# Altium schematic symbol library HW_ADHERENT_LANECTRL_R1.SchLib: 1635 symbols (part 31 of 31)
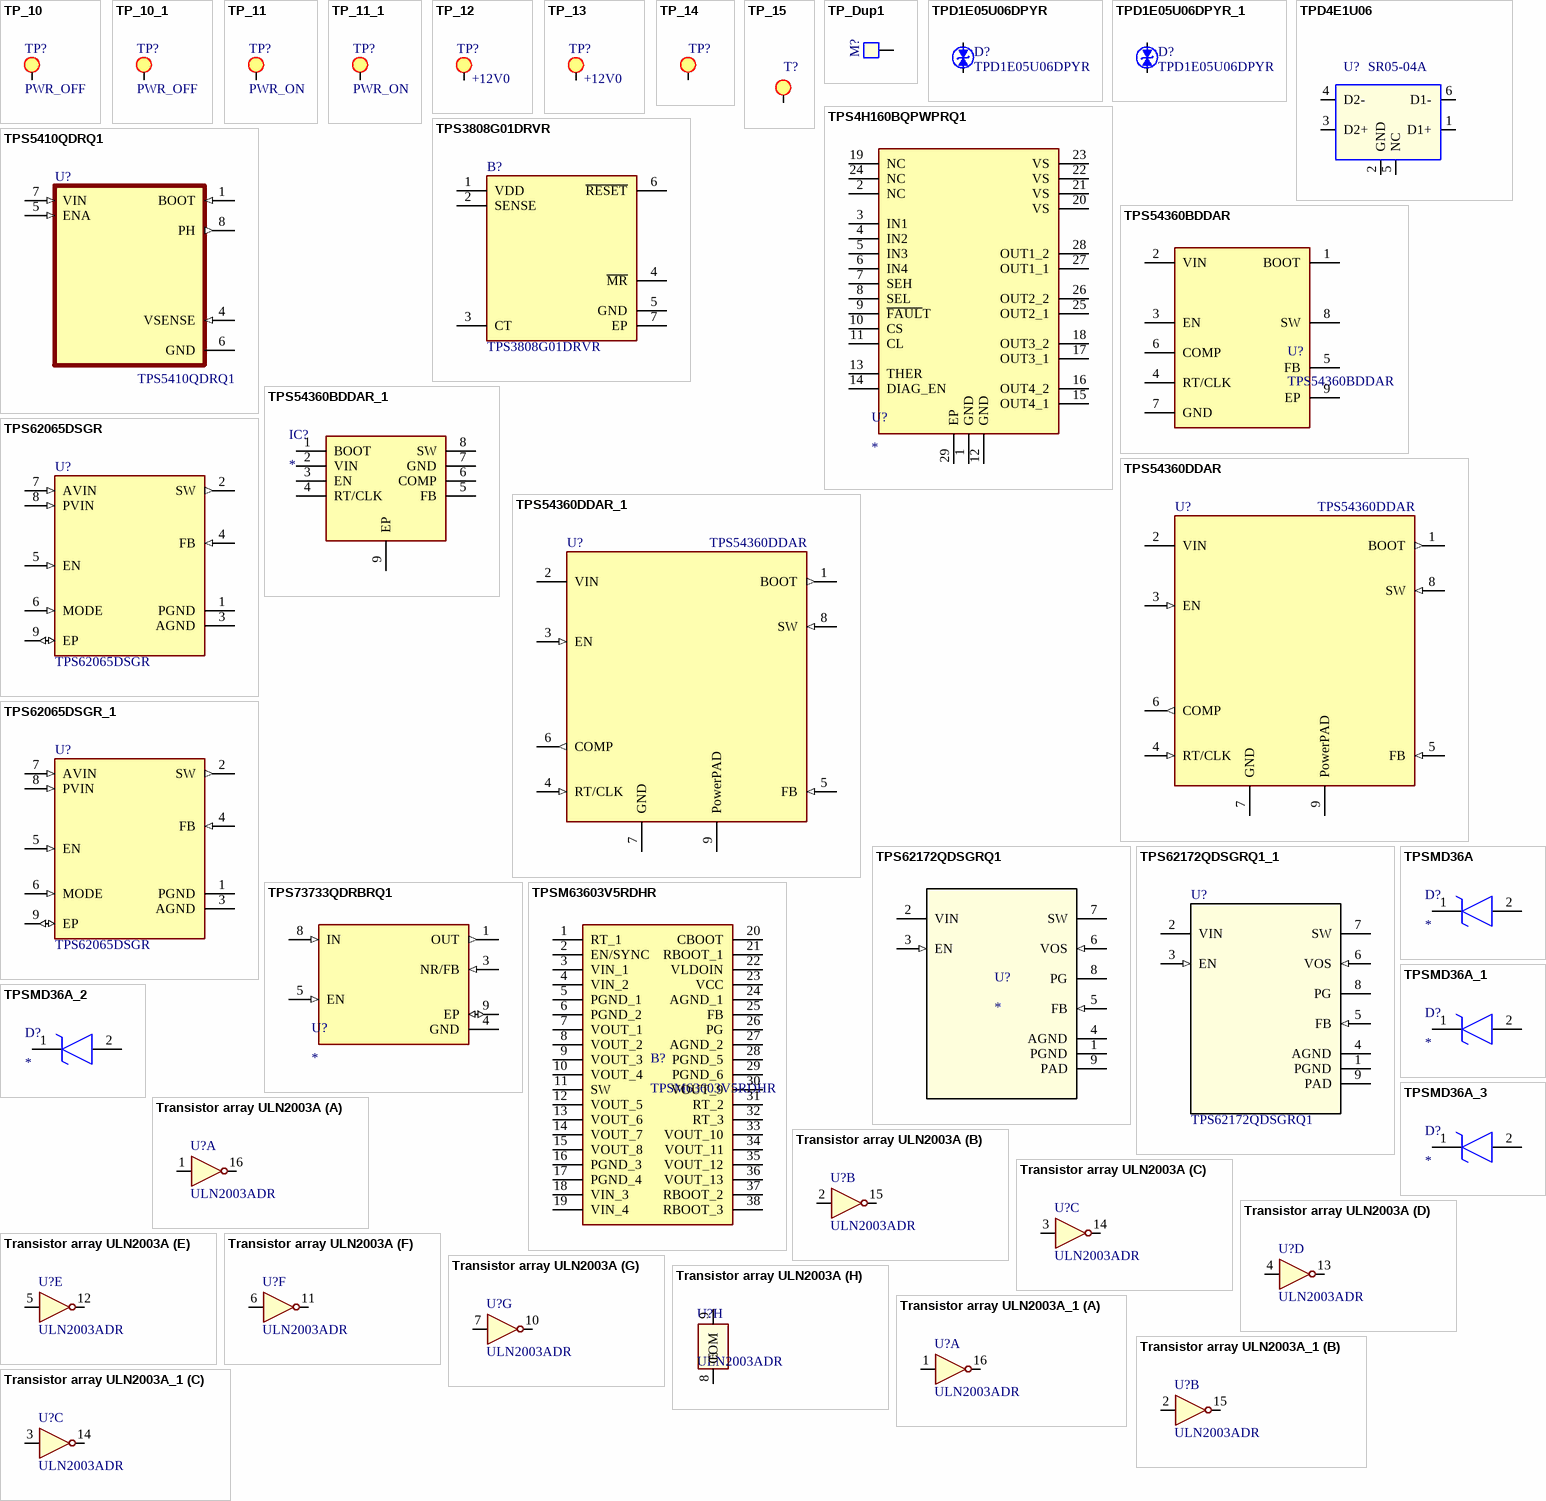
[diagram p81: symbols TP_10 to Transistor array ULN2003A_1]

## TPS62172QDSGRQ1_1
designator U?, comment TPS62172QDSGRQ1
No Description Available; Mfr_Name: Texas Instruments; Alternate_PartNumber: TPS62172QDSGTQ1; CompType: IC; TYPE: TYPE; RefDes: RefDes; Application_BuildNumber: *; PartNumber: TPS62172QDSGRQ1; PackageReference: DSG0008A; MountType: SMT; RoHS: Y; Manufacturer: Texas Instruments
footprint DSG0008A
pins: 1 PGND (power), 2 VIN (power), 3 EN (in), 4 AGND (power), 5 FB (in), 6 VOS (in), 7 SW (power), 8 PG (hiz), 9 PAD (power)

## TPS73733QDRBRQ1
designator U?
Linear Voltage Regulator IC Positive Fixed 1 Output 1A 8-SON (3x3); MPN: TPS73733QDRBRQ1; Supplier: 296-24157-6-ND
footprint IC_DRV8601DRBT
pins: 1 OUT (out), 3 NR/FB (in), 4 GND (power), 5 EN (in), 8 IN (in), 9 EP (io)

## TPSM63603V5RDHR
designator B?
High-density, 3-V to 36-V input, 1-V to 16-V output, 3-A power module 30-B0QFN -40 to 125; Manufacturer: Texas Instruments; Supplier 1: Digikey; Manufacturer Part Number: TPSM63603V5RDHR; RoHS: No; Category: Integrated Circuits (ICs); Stock 1: 2582; Pricing 1: 1=8.77, 10=7.926, 25=7.5572, 100=6.562, 250=6.26704, 500=5.71408, 1000=4.97678 (USD); Supplier Part Number 1: 296-TPSM63603V5RDHRDKR-ND
footprint TPSM63603V5RDHR
pins: 1 RT_1, 2 EN/SYNC, 3 VIN_1, 4 VIN_2, 5 PGND_1, 6 PGND_2, 7 VOUT_1, 8 VOUT_2, 9 VOUT_3, 10 VOUT_4, 11 SW, 12 VOUT_5, 13 VOUT_6, 14 VOUT_7, 15 VOUT_8, 16 PGND_3, 17 PGND_4, 18 VIN_3, 19 VIN_4, 20 CBOOT, 21 RBOOT_1, 22 VLDOIN, 23 VCC, 24 AGND_1, 25 FB, 26 PG, 27 AGND_2, 28 PGND_5, 29 PGND_6, 30 VOUT_9, 31 RT_2, 32 RT_3, 33 VOUT_10, 34 VOUT_11, 35 VOUT_12, 36 VOUT_13, 37 RBOOT_2, 38 RBOOT_3

## TPSMD36A
designator D?
TVS Diode (Uni-directional); Manufacturer_Name: LITTELFUSE; Manufacturer_Part_Number: TPSMD36A; Datasheet Link: https://m.littelfuse.com/~/media/electronics/datasheets/tvs_diodes/littelfuse_tvs_diode_tpsmd_datasheet.pdf.pdf; Height: 2.62mm; Mouser Part Number: 576-TPSMD36A; Mouser Price/Stock: https://www.mouser.co.uk/ProductDetail/Littelfuse/TPSMD36A/?qs=aB6s9aM%2FkvTMcsXSVOJYGg%3D%3D; Arrow Part Number: TPSMD36A; Arrow Price/Stock: https://www.arrow.com/en/products/tpsmd36a/littelfuse
footprint DIOM7959X262N
pins: 1 K, 2 A

## TPSMD36A_1
designator D?
TVS Diode (Uni-directional); Manufacturer_Name: LITTELFUSE; Manufacturer_Part_Number: TPSMD36A; Datasheet Link: https://m.littelfuse.com/~/media/electronics/datasheets/tvs_diodes/littelfuse_tvs_diode_tpsmd_datasheet.pdf.pdf; Height: 2.62mm; Mouser Part Number: 576-TPSMD36A; Mouser Price/Stock: https://www.mouser.co.uk/ProductDetail/Littelfuse/TPSMD36A/?qs=aB6s9aM%2FkvTMcsXSVOJYGg%3D%3D; Arrow Part Number: TPSMD36A; Arrow Price/Stock: https://www.arrow.com/en/products/tpsmd36a/littelfuse
footprint DIOM7959X262N
pins: 1 K, 2 A

## TPSMD36A_2
designator D?
TVS Diode (Uni-directional); Manufacturer_Name: LITTELFUSE; Manufacturer_Part_Number: TPSMD36A; Datasheet Link: https://m.littelfuse.com/~/media/electronics/datasheets/tvs_diodes/littelfuse_tvs_diode_tpsmd_datasheet.pdf.pdf; Height: 2.62mm; Mouser Part Number: 576-TPSMD36A; Mouser Price/Stock: https://www.mouser.co.uk/ProductDetail/Littelfuse/TPSMD36A/?qs=aB6s9aM%2FkvTMcsXSVOJYGg%3D%3D; Arrow Part Number: TPSMD36A; Arrow Price/Stock: https://www.arrow.com/en/products/tpsmd36a/littelfuse
footprint DIOM7959X262N
pins: 1 K, 2 A

## TPSMD36A_3
designator D?
TVS Diode (Uni-directional); Manufacturer_Name: LITTELFUSE; Manufacturer_Part_Number: TPSMD36A; Datasheet Link: https://m.littelfuse.com/~/media/electronics/datasheets/tvs_diodes/littelfuse_tvs_diode_tpsmd_datasheet.pdf.pdf; Height: 2.62mm; Mouser Part Number: 576-TPSMD36A; Mouser Price/Stock: https://www.mouser.co.uk/ProductDetail/Littelfuse/TPSMD36A/?qs=aB6s9aM%2FkvTMcsXSVOJYGg%3D%3D; Arrow Part Number: TPSMD36A; Arrow Price/Stock: https://www.arrow.com/en/products/tpsmd36a/littelfuse
footprint DIOM7959X262N
pins: 1 K, 2 A

## Transistor array ULN2003A
designator U?, comment ULN2003ADR
IC PWR RELAY 7NPN 1:1 16SOIC; Manufacturer: Texas Instruments; Value: ULN2003ADR; Manufacturer Part Number: ULN2003ADR; Supplier Part Number: 296-1368-1-ND
footprint SOIC-16 - W3.9mm (SI8631AB-B-IS1)
part A pins: 1 1B, 16 2C
part B pins: 2 2B, 15 2C
part C pins: 3 3B, 14 3C
part D pins: 4 4B, 13 4C
part E pins: 5 5B, 12 5C
part F pins: 6 6B, 11 6C
part G pins: 7 7B, 10 7C
part H pins: 8 E, 9 COM

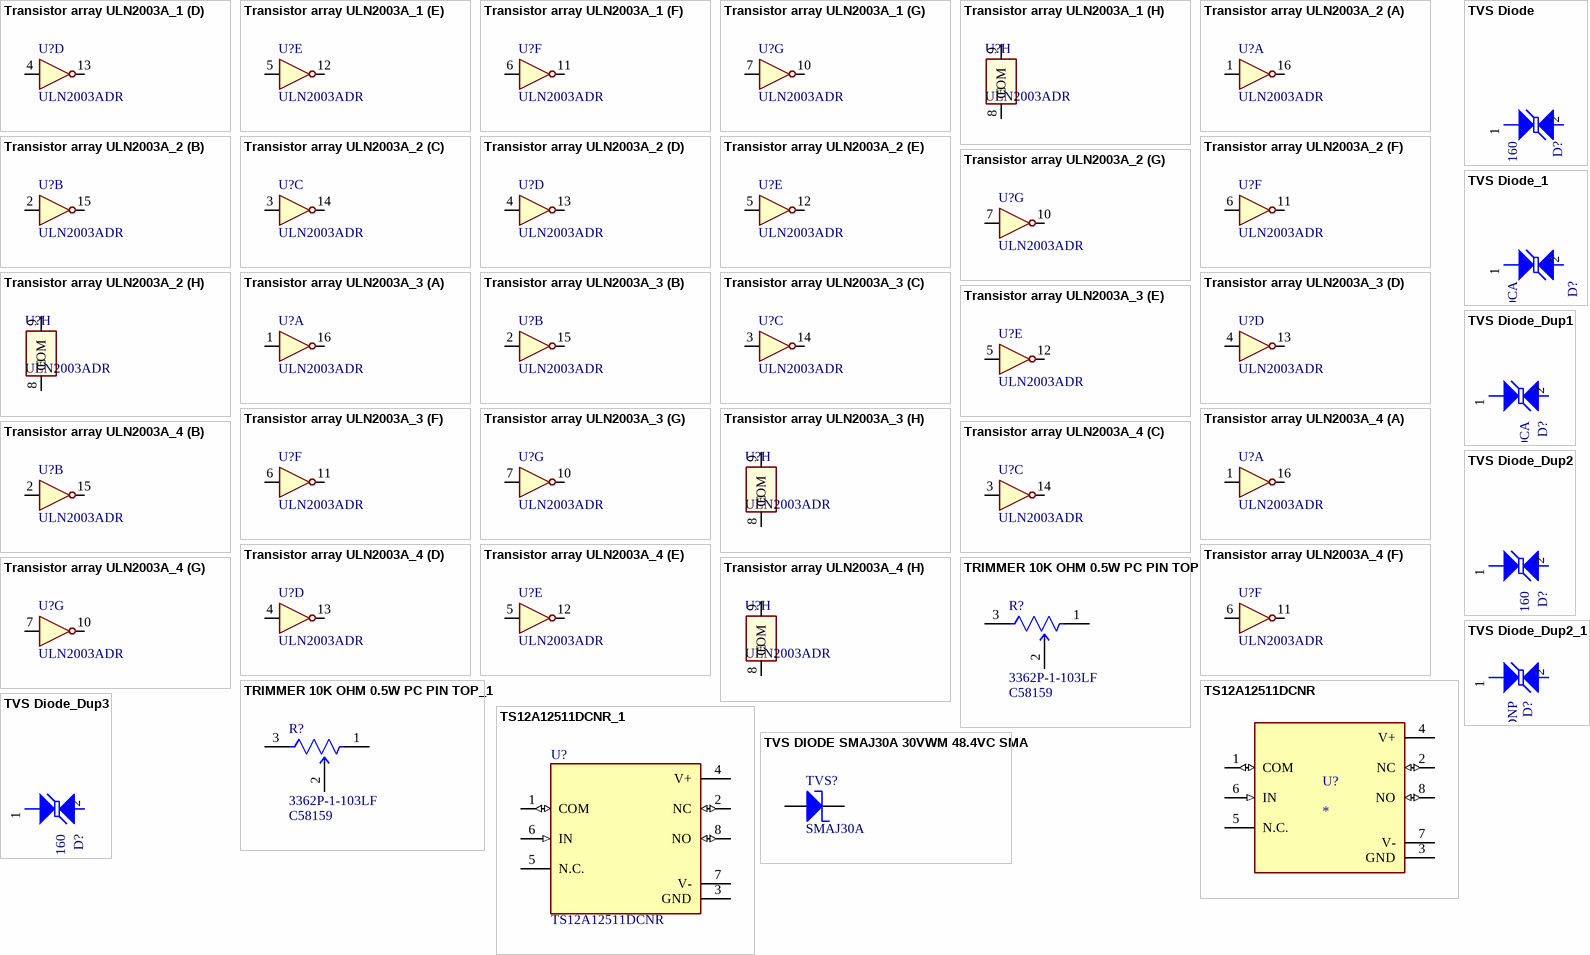
[diagram p49: symbols Transistor array ULN2003A_1 to TVS Diode_Dup3]

## Transistor array ULN2003A_1
designator U?, comment ULN2003ADR
IC PWR RELAY 7NPN 1:1 16SOIC; Manufacturer: Texas Instruments; Value: ULN2003ADR; Manufacturer Part Number: ULN2003ADR; Supplier Part Number: 296-1368-1-ND
footprint SOIC-16 - W3.9mm (SI8631AB-B-IS1)
part A pins: 1 1B, 16 2C
part B pins: 2 2B, 15 2C
part C pins: 3 3B, 14 3C
part D pins: 4 4B, 13 4C
part E pins: 5 5B, 12 5C
part F pins: 6 6B, 11 6C
part G pins: 7 7B, 10 7C
part H pins: 8 E, 9 COM

## Transistor array ULN2003A_2
designator U?, comment ULN2003ADR
IC PWR RELAY 7NPN 1:1 16SOIC; Manufacturer: Texas Instruments; Value: ULN2003ADR; Manufacturer Part Number: ULN2003ADR; Supplier Part Number: 296-1368-1-ND
footprint SOIC-16 - W3.9mm (SI8631AB-B-IS1)
part A pins: 1 1B, 16 2C
part B pins: 2 2B, 15 2C
part C pins: 3 3B, 14 3C
part D pins: 4 4B, 13 4C
part E pins: 5 5B, 12 5C
part F pins: 6 6B, 11 6C
part G pins: 7 7B, 10 7C
part H pins: 8 E, 9 COM

## Transistor array ULN2003A_3
designator U?, comment ULN2003ADR
IC PWR RELAY 7NPN 1:1 16SOIC; Manufacturer: Texas Instruments; Value: ULN2003ADR; Manufacturer Part Number: ULN2003ADR; Supplier Part Number: 296-1368-1-ND
footprint SOIC-16 - W3.9mm (SI8631AB-B-IS1)
part A pins: 1 1B, 16 2C
part B pins: 2 2B, 15 2C
part C pins: 3 3B, 14 3C
part D pins: 4 4B, 13 4C
part E pins: 5 5B, 12 5C
part F pins: 6 6B, 11 6C
part G pins: 7 7B, 10 7C
part H pins: 8 E, 9 COM

## Transistor array ULN2003A_4
designator U?, comment ULN2003ADR
IC PWR RELAY 7NPN 1:1 16SOIC; Manufacturer: Texas Instruments; Value: ULN2003ADR; Manufacturer Part Number: ULN2003ADR; Supplier Part Number: 296-1368-1-ND
footprint SOIC-16 - W3.9mm (SI8631AB-B-IS1)
part A pins: 1 1B, 16 2C
part B pins: 2 2B, 15 2C
part C pins: 3 3B, 14 3C
part D pins: 4 4B, 13 4C
part E pins: 5 5B, 12 5C
part F pins: 6 6B, 11 6C
part G pins: 7 7B, 10 7C
part H pins: 8 E, 9 COM

## TRIMMER 10K OHM 0.5W PC PIN TOP
designator R?  Manufacturer Part Number: 3362P-1-103LF  LCSC Part Number: C58159  (hidden comment: TRIMMER 10K OHM 0.5W PC PIN TOP)
10 kOhms 0.5W, 1/2W PC Pins Through Hole Trimmer Potentiometer Cermet 1.0 Turn Top Adjustment
footprint Bourns_3386P_MFG
pins: 1 CCW, 2 WIPER, 3 CW

## TRIMMER 10K OHM 0.5W PC PIN TOP_1
designator R?, comment Manufacturer Part Number: 3362P-1-103LF  LCSC Part Number: C58159  (hidden comment: TRIMMER 10K OHM 0.5W PC PIN TOP)
10 kOhms 0.5W, 1/2W PC Pins Through Hole Trimmer Potentiometer Cermet 1.0 Turn Top Adjustment
footprint Bourns_3386P_MFG
pins: 1 CCW, 2 WIPER, 3 CW

## TS12A12511DCNR
designator U?
12-V, 2:1 (SPDT), 1-channel analog switch with negative signaling capability; MF: Texas Instruments; MP: TS12A12511DCNR; SnapEDA_Link: https://www.snapeda.com/parts/TS12A12511DCNR/Texas+Instruments/view-part/?ref=snap; Package: SOT-23-8 Texas Instruments; Value: *; Check_prices: https://www.snapeda.com/parts/TS12A12511DCNR/Texas+Instruments/view-part/?ref=eda
footprint SOT65P280X145-8N
pins: 1 COM (io), 2 NC (io), 3 GND (power), 4 V+ (power), 5 N.C., 6 IN (in), 7 V- (power), 8 NO (io)

## TS12A12511DCNR_1
designator U?, comment TS12A12511DCNR
12-V, 2:1 (SPDT), 1-channel analog switch with negative signaling capability; MF: Texas Instruments; SnapEDA_Link: https://www.snapeda.com/parts/TS12A12511DCNR/Texas+Instruments/view-part/?ref=snap; Package: SOT-23-8 Texas Instruments; Value: *; MP: TS12A12511DCNR; Check_prices: https://www.snapeda.com/parts/TS12A12511DCNR/Texas+Instruments/view-part/?ref=eda
footprint SOT65P280X145-8N
pins: 1 COM (io), 2 NC (io), 3 GND (power), 4 V+ (power), 5 N.C., 6 IN (in), 7 V- (power), 8 NO (io)

## TVS Diode
designator D?, comment B72590D50H160
Diode,TVS,5.6VDC,SMD,D0402,TDK; Myir P/N: 20701.00001; Part Type: Diode; Manufacturer: TDK; Manufacturer P/N: B72590D50H160; Reserve Value: B72590D50H160; Datasheet: B72590D0050H160.pdf; PCB Footprint: D0402
footprint L16214
footprint D0402
pins: 1, 2

## TVS DIODE SMAJ30A 30VWM 48.4VC SMA
designator TVS?  value SMAJ30A  (hidden comment: TVS DIODE SMAJ30A 30VWM 48.4VC SMA)
Manufacturer: LITTELFUSE; Code: 3040004; Family: DIODE; Manufacturer Part Name: SMAJ30A; Package Reference: DO214AC; Supplier: Digikey; Supplier No: SMAJ30ALFDKR-ND
footprint DO214AC (DO-214-AC/SMA; 2 C-Bend Leads; Body 5.3 x 2.6 mm, inc. leads (LxW))
pins: 1 A, 2 K

## TVS Diode_1
designator D?, comment SMBJ6.0CA
Diode, TVS Bi-Dir 6V 600W, DO-214AA(SMB); Manufacturer: UN; Myir P/N: 20701.00028; PCB Footprint: DO-214AA; Part Type: Diode; Manufacturer P/N: SMBJ6.0CA; Reserve Value: SMBJ6.0CA; Datasheet: SMBJ6.0C.pdf
footprint L16214
footprint DO-214AA
pins: 1, 2

## TVS Diode_Dup1
designator D?, comment SMBJ6.0CA
Diode, TVS Bi-Dir 6V 600W, DO-214AA(SMB); Manufacturer: UN; Myir P/N: 20701.00028; Datasheet: SMBJ6.0C.pdf; Reserve Value: SMBJ6.0CA; Manufacturer P/N: SMBJ6.0CA; Part Type: Diode; PCB Footprint: do-214aa
footprint L16214
footprint do-214aa
pins: 1, 2

## TVS Diode_Dup2
designator D?, comment B72590D50H160
Diode,TVS,5.6VDC,SMD,D0402,TDK; Myir P/N: 20701.00001; Datasheet: B72590D0050H160.pdf; Reserve Value: B72590D50H160; Manufacturer P/N: B72590D50H160; Manufacturer: TDK; Part Type: Diode; PCB Footprint: D0402
footprint L16214
footprint D0402
pins: 1, 2

## TVS Diode_Dup2_1
designator D?, comment DNP
Diode,TVS,5.6VDC,SMD,D0402,TDK; Manufacturer P/N: B72590D50H160; Myir P/N: 20701.00001; Part Type: Diode; Manufacturer: TDK; Reserve Value: B72590D50H160; Datasheet: B72590D0050H160.pdf; PCB Footprint: D0402
footprint L16214
footprint D0402
pins: 1, 2

## TVS Diode_Dup3
designator D?, comment B72590D50H160
Diode,TVS,5.6VDC,SMD,D0402,TDK; Myir P/N: 20701.00001; PCB Footprint: D0402; Part Type: Diode; Manufacturer: TDK; Manufacturer P/N: B72590D50H160; Reserve Value: B72590D50H160; Datasheet: B72590D0050H160.pdf
footprint L16214
footprint D0402
pins: 1, 2

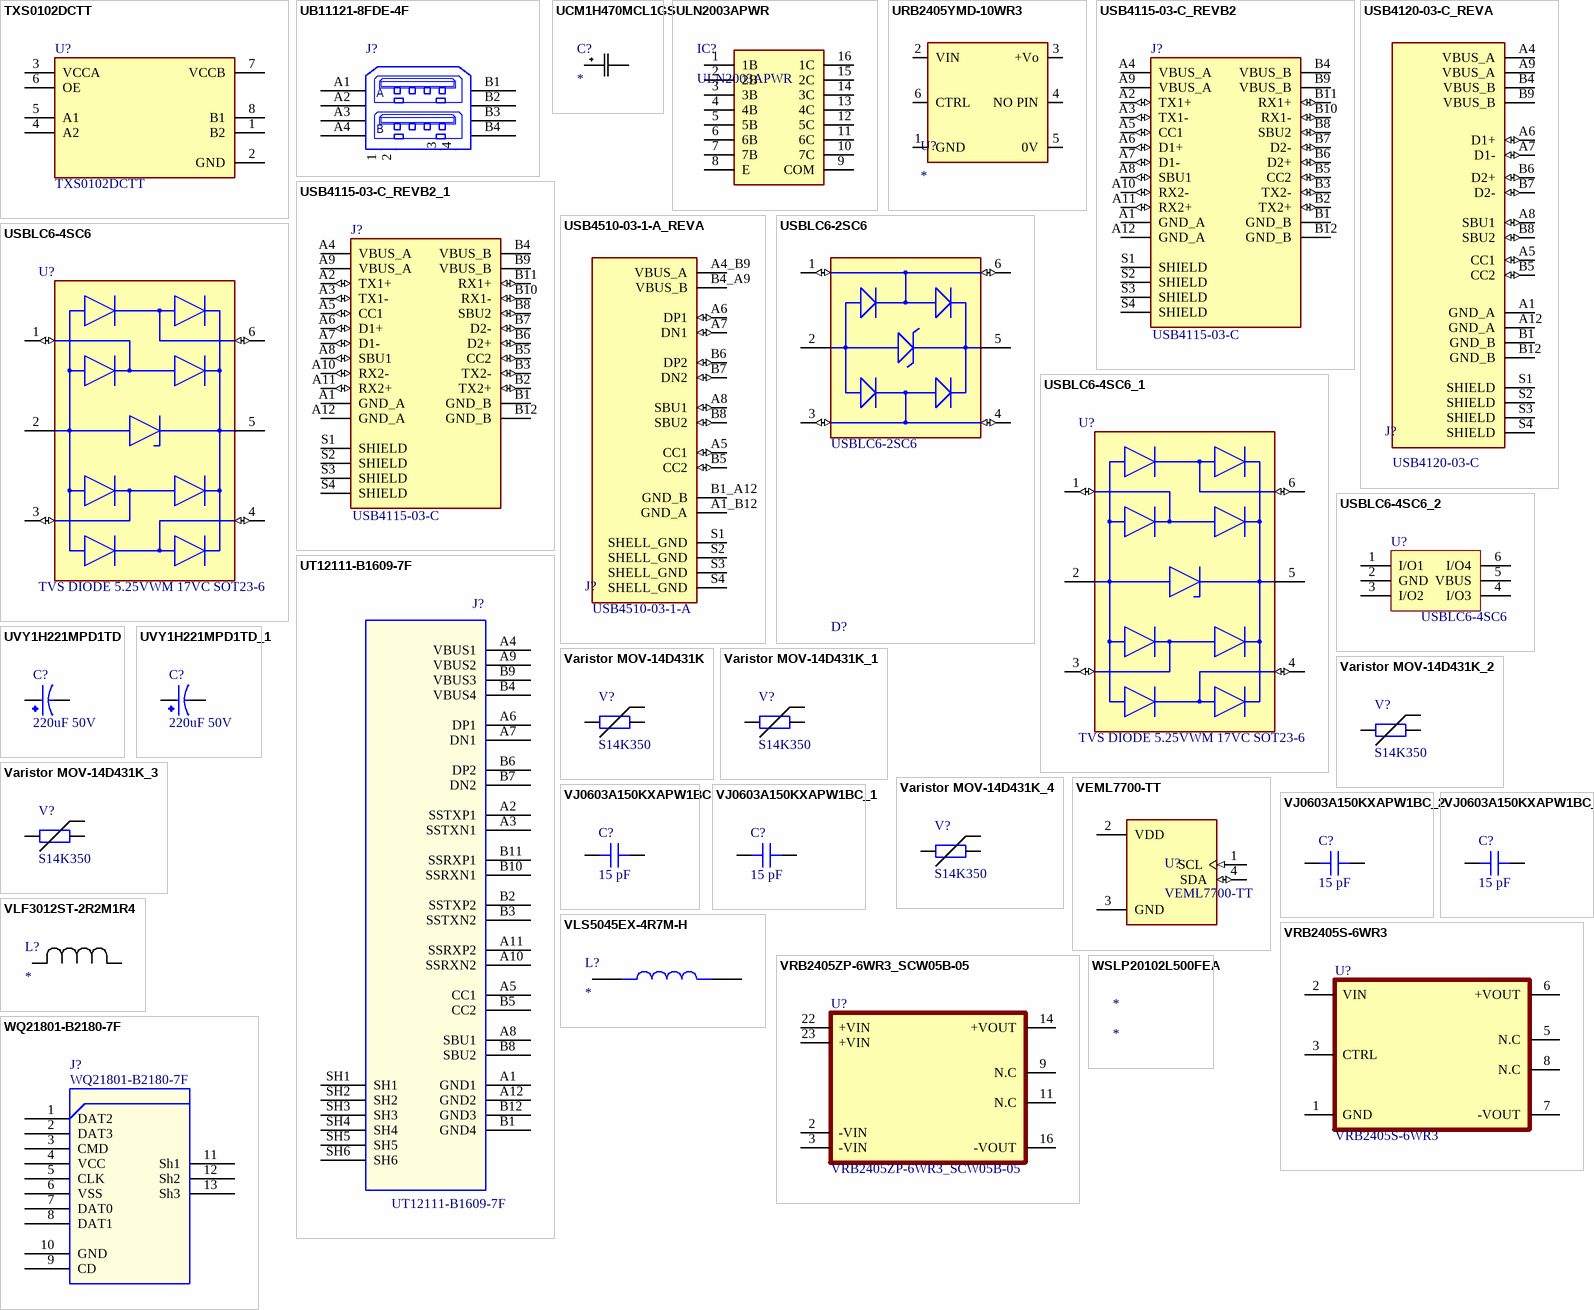
[diagram p50: symbols TXS0102DCTT to WSLP20102L500FEA]

## TXS0102DCTT
designator U?
2-Bit Bidirectional Voltage-Level Shifter for Open-Drain and Push-Pull Application; Manufacturer_Name: Texas Instruments; Geometry.Height: 1.3mm; Manufacturer Part Number: TXS0102DCTT; Mouser Part Number: 595-TXS0102DCTT; Mouser Price/Stock: https://www.mouser.co.uk/ProductDetail/Texas-Instruments/TXS0102DCTT?qs=BWabSxB1G9dXmadXua3JhQ%3D%3D; Arrow Part Number: TXS0102DCTT; Arrow Price/Stock: https://www.arrow.com/en/products/txs0102dctt/texas-instruments?region=nac; Datasheet Link: https://www.ti.com/lit/gpn/TXS0102
footprint SOP65P400X130-8N
pins: 1 B2, 2 GND, 3 VCCA, 4 A2, 5 A1, 6 OE, 7 VCCB, 8 B1

## UB11121-8FDE-4F
designator J?  (value not drawn)
Connector,Double-USB A,Female,Right angle,4Pos,4.13mm,1u¡±MIN Gold Plate,-55~85¡æ,Foxconn; Myir P/N: 21121.00004; Datasheet: DUSB_A_Foxconn_UB11121-8FDE-4F.pdf; Reserve Value: UB11121-8FDE-4F; Manufacturer P/N: UB11121-8FDE-4F; Manufacturer: Foxconn; Part Type: USB Connector; PCB Footprint: UB11121-8FDE-4F
footprint CON_USBDUAL72309
footprint UB11121-8FDE-4F
pins: 1 BODY1, 2 BODY2, 3 BODY3, 4 BODY4, A1 VCC (power), A2 USBHMA, A3 USBHPA, A4 GND (power), B1 VCC (power), B2 USBHMB, B3 USBHPB, B4 GND (power)
text: A; B

## UCM1H470MCL1GS
designator C?
47 µF 50 V Aluminum Electrolytic Capacitors Radial, Can - SMD 2000 Hrs @ 105°C; Mfr_Name: Nichicon
footprint CAP_UCD_6P3X5P8_NCH
pins: 1, 2

## ULN2003APWR
designator IC?
TRAN 7NPN DARL 50V 0.5A 16TSSOP; Manufacturer_Name: Texas Instruments; Datasheet Link: http://www.ti.com/lit/gpn/uln2003a; Height: 1.2mm; Manufacturer_Part_Number: ULN2003APWR; Mouser Part Number: 595-ULN2003APWR; Mouser Price/Stock: https://www.mouser.co.uk/ProductDetail/Texas-Instruments/ULN2003APWR?qs=pbofycSuseM4frKhBfKqYw%3D%3D; Arrow Part Number: ULN2003APWR; Arrow Price/Stock: https://www.arrow.com/en/products/uln2003apwr/texas-instruments?utm_currency=USD&region=europe
footprint SOP65P640X120-16N
pins: 1 1B, 2 2B, 3 3B, 4 4B, 5 5B, 6 6B, 7 7B, 8 E, 9 COM, 10 7C, 11 6C, 12 5C, 13 4C, 14 3C, 15 2C, 16 1C

## URB2405YMD-10WR3
designator U?
Isolated Module DC DC Converter 1 Output 5V 2A 9V - 36V Input; Manufacturer: Mornsun America, LLC; Supplier: 2725-URB2405YMD-10WR3-ND
footprint URB2405YMD-10WR3
pins: 1 GND, 2 VIN, 3 +Vo, 4 NO PIN, 5 0V, 6 CTRL

## USB4115-03-C_REVB2
designator J?, comment Manufacturer Part Number: USB4115-03-C  (hidden comment: CONN USB3.1 TYPE-C VERT SOCKET)
USB-C (USB TYPE-C) USB 3.2 Gen 2 (USB 3.1 Gen 2, Superspeed + (USB 3.1)) Receptacle Connector 24 Position Surface Mount, Through Hole; Order Code: Digi: 2073-USB4115-03-CTR-ND
footprint GCT_USB4115-03-C_REVB2
pins: A1 GND_A (power), A2 TX1+ (io), A3 TX1- (io), A4 VBUS_A (power), A5 CC1 (io), A6 D1+ (io), A7 D1- (io), A8 SBU1 (io), A9 VBUS_A (power), A10 RX2- (io), A11 RX2+ (io), A12 GND_A (power), B1 GND_B (power), B2 TX2+ (io), B3 TX2- (io), B4 VBUS_B (power), B5 CC2 (io), B6 D2+ (io), B7 D2- (io), B8 SBU2 (io), B9 VBUS_B (power), B10 RX1- (io), B11 RX1+ (io), B12 GND_B (power), S1 SHIELD, S2 SHIELD, S3 SHIELD, S4 SHIELD

## USB4115-03-C_REVB2_1
designator J?, comment Manufacturer Part Number: USB4115-03-C  (hidden comment: CONN USB3.1 TYPE-C VERT SOCKET)
USB-C (USB TYPE-C) USB 3.2 Gen 2 (USB 3.1 Gen 2, Superspeed + (USB 3.1)) Receptacle Connector 24 Position Surface Mount, Through Hole; Order Code: Digi: 2073-USB4115-03-CTR-ND
footprint GCT_USB4115-03-C_REVB2
pins: A1 GND_A (power), A2 TX1+ (io), A3 TX1- (io), A4 VBUS_A (power), A5 CC1 (io), A6 D1+ (io), A7 D1- (io), A8 SBU1 (io), A9 VBUS_A (power), A10 RX2- (io), A11 RX2+ (io), A12 GND_A (power), B1 GND_B (power), B2 TX2+ (io), B3 TX2- (io), B4 VBUS_B (power), B5 CC2 (io), B6 D2+ (io), B7 D2- (io), B8 SBU2 (io), B9 VBUS_B (power), B10 RX1- (io), B11 RX1+ (io), B12 GND_B (power), S1 SHIELD, S2 SHIELD, S3 SHIELD, S4 SHIELD

## USB4120-03-C_REVA
designator J?, comment Manufacturer Part Number: USB4120-03-C  (hidden comment: CONN RCPT USB2.0 TYP C 24POS SMD)
USB-C (USB TYPE-C) USB 2.0 Receptacle Connector 24 (16+8 Dummy) Position Surface Mount, Through Hole; Order Code: DIGI: 2073-USB4120-03-CTR-ND
footprint GCT_USB4120-03-C_REVA
pins: A1 GND_A (power), A4 VBUS_A (power), A5 CC1 (io), A6 D1+ (io), A7 D1- (io), A8 SBU1 (io), A9 VBUS_A (power), A12 GND_A (power), B1 GND_B (power), B4 VBUS_B (power), B5 CC2 (io), B6 D2+ (io), B7 D2- (io), B8 SBU2 (io), B9 VBUS_B (power), B12 GND_B (power), S1 SHIELD, S2 SHIELD, S3 SHIELD, S4 SHIELD

## USB4510-03-1-A_REVA
designator J?, comment Manufacturer Part Number: USB4510-03-1-A  (hidden comment: USB C REC 16P 3U" MID MNT 1.6MM)
USB-C (USB TYPE-C) USB 2.0 Receptacle Connector 24 (16+8 Dummy) Position Board Edge, Cutout; Surface Mount; Through Hole, Right Angle; Order Code: DIGI: 2073-USB4510-03-1-ATR-ND
footprint GCT_USB4510-03-1-A_REVA
pins: A1_B12 GND_A (power), A4_B9 VBUS_A (power), A5 CC1 (io), A6 DP1 (io), A7 DN1 (io), A8 SBU1 (io), B1_A12 GND_B (power), B4_A9 VBUS_B (power), B5 CC2 (io), B6 DP2 (io), B7 DN2 (io), B8 SBU2 (io), S1 SHELL_GND (power), S2 SHELL_GND (power), S3 SHELL_GND (power), S4 SHELL_GND (power)

## USBLC6-2SC6
designator D?, comment Manufacturer Part Number: USBLC6-2SC6  (hidden comment: TVS DIODE 5.25VWM 17VC SOT23-6)
17V Clamp 5A (8/20µs) Ipp Tvs Diode Surface Mount SOT-23-6; Order Code: DIGI: 497-5235-2-ND
footprint STMicroelectronics_SOT23-6L_IPC_A
footprint STMicroelectronics_SOT23-6L_IPC_B
footprint STMicroelectronics_SOT23-6L_IPC_C
footprint STMicroelectronics_SOT23-6L_MFG
pins: 1 I/O1 (io), 2 GND (power), 3 I/O2 (io), 4 I/O2 (io), 5 VBUS (power), 6 I/O1 (io)

## USBLC6-4SC6
designator U?, comment TVS DIODE 5.25VWM 17VC SOT23-6
17V Clamp 5A (8/20µs) Ipp Tvs Diode Surface Mount SOT-23-6; Manufacturer Part Number: USBLC6-4SC6; Order Code: Digi: 497-4492-2-ND; LCSC Manufacturer Part NUmber: USBLC6-4SC6; LCSC Part Number: C111212
footprint SOT95P280X145-6N
pins: 1 I/O1 (io), 2 GND, 3 I/O2 (io), 4 I/O3 (io), 5 VP (power), 6 I/O4 (io)

## USBLC6-4SC6_1
designator U?, comment TVS DIODE 5.25VWM 17VC SOT23-6
17V Clamp 5A (8/20µs) Ipp Tvs Diode Surface Mount SOT-23-6; Manufacturer Part Number: USBLC6-4SC6; Order Code: Digi: 497-4492-2-ND; LCSC Manufacturer Part NUmber: USBLC6-4SC6; LCSC Part Number: C111212
footprint SOT95P280X145-6N
pins: 1 I/O1 (io), 2 GND, 3 I/O2 (io), 4 I/O3 (io), 5 VP (power), 6 I/O4 (io)

## USBLC6-4SC6_2
designator U?, comment USBLC6-4SC6
Very low capacitance ESD protection , 4 lines; Internal_Part_Number: MCD-00250; Part_Type: IC; Manufacturer: STMICROELECTRONICS; BMS_Part_Number: 9151001; Provided_By: SUBCO with ST control; ECCN_US: EAR99; ECCN_EU: NEC; Status: Released; Manufacturer Part Number: USBLC6-4SC6; ComponentLink1Description: Datasheet; ComponentLink1URL: http://tunmcdsvn.tun.st.com/Component_Datasheet_Library/Trunk/Diodes/STM_ESD_USBLC6-4SC6; Value: USBLC6-4SC6
footprint SOT23-6L
pins: 1 I/O1, 2 GND, 3 I/O2, 4 I/O3, 5 VBUS, 6 I/O4

## UT12111-B1609-7F
designator J?
Connector,USB C,24Pin,¨C25¡æ~£«85¡æ,SMT,Foxconn; CLASS: IO; Myir P/N: 21107.00017; Datasheet: USB_C_Foxconn_UT12111-B1609-7F_.pdf; Reserve Value: UT12111-B1609-7F; Manufacturer P/N: UT12111-B1609-7F; Manufacturer: Foxconn; Part Type: USB Connector; PCB Footprint: UT12111-B1609-7F
footprint UT12111-B1609-7F
pins: A1 GND1 (power), A2 SSTXP1, A3 SSTXN1, A4 VBUS1, A5 CC1, A6 DP1, A7 DN1, A8 SBU1, A9 VBUS2, A10 SSRXN2, A11 SSRXP2, A12 GND2 (power), B1 GND4 (power), B2 SSTXP2, B3 SSTXN2, B4 VBUS4, B5 CC2, B6 DP2, B7 DN2, B8 SBU2, B9 VBUS3, B10 SSRXN1, B11 SSRXP1, B12 GND3 (power), SH1 (power), SH2 (power), SH3 (power), SH4 (power), SH5 (power), SH6 (power)

## UVY1H221MPD1TD
designator C?  value 220uF 50V  (hidden comment: UVY1H221MPD1TD)
220 µF 50 V Aluminum Electrolytic Capacitors Radial, Can 2000 Hrs @ 105°C; Order Code: Digi: 493-12916-1-ND; Manufacturer Part Number: UVY1H221MPD1TD; LCSC Manufacturer Part Number: UVY1H221MPD1TD; LCSC Part Number: C340752
footprint CAP_RN_10X12P5_NCH
pins: 1, 2

## UVY1H221MPD1TD_1
designator C?, comment value 220uF 50V  (hidden comment: UVY1H221MPD1TD)
220 µF 50 V Aluminum Electrolytic Capacitors Radial, Can 2000 Hrs @ 105°C; Order Code: Digi: 493-12916-1-ND; Manufacturer Part Number: UVY1H221MPD1TD; LCSC Manufacturer Part Number: UVY1H221MPD1TD; LCSC Part Number: C340752
footprint CAP_RN_10X12P5_NCH
pins: 1, 2

## Varistor MOV-14D431K
designator V?, comment value S14K350  (hidden comment: MOV-14D431KTR)
VARISTOR 430V 4.5KA DISC 14MM; Manufacturer: Bourns Inc.; Manufacturer Part Number: MOV-14D431KTR; Supplier Part Number: 118-MOV-14D431KTRCT-ND
footprint Ø16.5x5.2mm (MOV-14D431KTR)
pins: 1, 2

## Varistor MOV-14D431K_1
designator V?, comment value S14K350  (hidden comment: MOV-14D431KTR)
VARISTOR 430V 4.5KA DISC 14MM; Manufacturer: Bourns Inc.; Manufacturer Part Number: MOV-14D431KTR; Supplier Part Number: 118-MOV-14D431KTRCT-ND
footprint Ø16.5x5.2mm (MOV-14D431KTR)
pins: 1, 2

## Varistor MOV-14D431K_2
designator V?, comment value S14K350  (hidden comment: MOV-14D431KTR)
VARISTOR 430V 4.5KA DISC 14MM; Manufacturer: Bourns Inc.; Manufacturer Part Number: MOV-14D431KTR; Supplier Part Number: 118-MOV-14D431KTRCT-ND
footprint Ø16.5x5.2mm (MOV-14D431KTR)
pins: 1, 2

## Varistor MOV-14D431K_3
designator V?, comment value S14K350  (hidden comment: MOV-14D431KTR)
VARISTOR 430V 4.5KA DISC 14MM; Manufacturer: Bourns Inc.; Manufacturer Part Number: MOV-14D431KTR; Supplier Part Number: 118-MOV-14D431KTRCT-ND
footprint Ø16.5x5.2mm (MOV-14D431KTR)
pins: 1, 2

## Varistor MOV-14D431K_4
designator V?, comment value S14K350  (hidden comment: MOV-14D431KTR)
VARISTOR 430V 4.5KA DISC 14MM; Manufacturer: Bourns Inc.; Manufacturer Part Number: MOV-14D431KTR; Supplier Part Number: 118-MOV-14D431KTRCT-ND
footprint Ø16.5x5.2mm (MOV-14D431KTR)
pins: 1, 2

## VEML7700-TT
designator U?
Optical Sensor Ambient - IÂ²C 4-SMD, J-Lead; MF: Vishay Semiconductor; SnapEDA_Link: https://www.snapeda.com/parts/VEML7700-TT/Vishay/view-part/?ref=snap; Package: SMD-4 Vishay Semiconductor; Value: *; MP: VEML7700-TT; Check_prices: https://www.snapeda.com/parts/VEML7700-TT/Vishay/view-part/?ref=eda
footprint XDCR_VEML7700-TT
pins: 1 SCL (in), 2 VDD (power), 3 GND (power), 4 SDA (io)

## VJ0603A150KXAPW1BC
designator C?, comment 15 pF
CAP CER 15PF 50V C0G/NP0 0603; Part Number: VJ0603A150KXAPW1BC; manufacturer: Vishay Vitramon; Temperature Coefficient: C0G, NP0; Tolerance: ±10%; Applications: General Purpose; Capacitance: 15 pF; componentlink1description: Datasheet; componentlink1url: https://www.vishay.com/docs/28548/vjw1bcbascomseries.pdf; componentlink2description: DigiKey Link; componentlink2url: https://www.digikey.com/en/products/detail/vishay-vitramon/VJ0603A150KXAPW1BC/8303121; Device Package: 0603 (1608 Metric); lastupdated: 2/9/2024 8:09:54 PM; Lifecycle Status: Active; Minimum Order: 15000; Mounting Type: Surface Mount, MLCC; Operating Temperature: -55°C ~ 125°C; Package / Case: 0603 (1608 Metric); packaging: TapeAndReel; partid: 34612; Part Status: Active; price: 0.01; series: VJ W1BC; Size / Dimension: 0.063" L x 0.031" W (1.60mm x 0.80mm); Supplier 1: DigiKey; Supplier Part Number 1: 720-VJ0603A150KXAPW1BCTR-ND; Thickness (Max): 0.034" (0.87mm); Voltage - Rated: 50V; Value: 15 pF
footprint CAP 0603_1608
pins: 1, 2

## VJ0603A150KXAPW1BC_1
designator C?, comment 15 pF
CAP CER 15PF 50V C0G/NP0 0603; Part Number: VJ0603A150KXAPW1BC; manufacturer: Vishay Vitramon; Temperature Coefficient: C0G, NP0; Tolerance: ±10%; Applications: General Purpose; Capacitance: 15 pF; componentlink1description: Datasheet; componentlink1url: https://www.vishay.com/docs/28548/vjw1bcbascomseries.pdf; componentlink2description: DigiKey Link; componentlink2url: https://www.digikey.com/en/products/detail/vishay-vitramon/VJ0603A150KXAPW1BC/8303121; Device Package: 0603 (1608 Metric); lastupdated: 2/9/2024 8:09:54 PM; Lifecycle Status: Active; Minimum Order: 15000; Mounting Type: Surface Mount, MLCC; Operating Temperature: -55°C ~ 125°C; Package / Case: 0603 (1608 Metric); packaging: TapeAndReel; partid: 34612; Part Status: Active; price: 0.01; series: VJ W1BC; Size / Dimension: 0.063" L x 0.031" W (1.60mm x 0.80mm); Supplier 1: DigiKey; Supplier Part Number 1: 720-VJ0603A150KXAPW1BCTR-ND; Thickness (Max): 0.034" (0.87mm); Voltage - Rated: 50V; Value: 15 pF
footprint CAP 0603_1608
pins: 1, 2

## VJ0603A150KXAPW1BC_2
designator C?, comment 15 pF
CAP CER 15PF 50V C0G/NP0 0603; Part Number: VJ0603A150KXAPW1BC; manufacturer: Vishay Vitramon; Temperature Coefficient: C0G, NP0; Tolerance: ±10%; Applications: General Purpose; Capacitance: 15 pF; componentlink1description: Datasheet; componentlink1url: https://www.vishay.com/docs/28548/vjw1bcbascomseries.pdf; componentlink2description: DigiKey Link; componentlink2url: https://www.digikey.com/en/products/detail/vishay-vitramon/VJ0603A150KXAPW1BC/8303121; Device Package: 0603 (1608 Metric); lastupdated: 2/9/2024 8:09:54 PM; Lifecycle Status: Active; Minimum Order: 15000; Mounting Type: Surface Mount, MLCC; Operating Temperature: -55°C ~ 125°C; Package / Case: 0603 (1608 Metric); packaging: TapeAndReel; partid: 34612; Part Status: Active; price: 0.01; series: VJ W1BC; Size / Dimension: 0.063" L x 0.031" W (1.60mm x 0.80mm); Supplier 1: DigiKey; Supplier Part Number 1: 720-VJ0603A150KXAPW1BCTR-ND; Thickness (Max): 0.034" (0.87mm); Voltage - Rated: 50V; Value: 15 pF
footprint CAP 0603_1608
pins: 1, 2

## VJ0603A150KXAPW1BC_3
designator C?, comment 15 pF
CAP CER 15PF 50V C0G/NP0 0603; Part Number: VJ0603A150KXAPW1BC; manufacturer: Vishay Vitramon; Temperature Coefficient: C0G, NP0; Tolerance: ±10%; Applications: General Purpose; Capacitance: 15 pF; componentlink1description: Datasheet; componentlink1url: https://www.vishay.com/docs/28548/vjw1bcbascomseries.pdf; componentlink2description: DigiKey Link; componentlink2url: https://www.digikey.com/en/products/detail/vishay-vitramon/VJ0603A150KXAPW1BC/8303121; Device Package: 0603 (1608 Metric); lastupdated: 2/9/2024 8:09:54 PM; Lifecycle Status: Active; Minimum Order: 15000; Mounting Type: Surface Mount, MLCC; Operating Temperature: -55°C ~ 125°C; Package / Case: 0603 (1608 Metric); packaging: TapeAndReel; partid: 34612; Part Status: Active; price: 0.01; series: VJ W1BC; Size / Dimension: 0.063" L x 0.031" W (1.60mm x 0.80mm); Supplier 1: DigiKey; Supplier Part Number 1: 720-VJ0603A150KXAPW1BCTR-ND; Thickness (Max): 0.034" (0.87mm); Voltage - Rated: 50V; Value: 15 pF
footprint CAP 0603_1608
pins: 1, 2

## VLF3012ST-2R2M1R4
designator L?
No Description Available; Mfr_Name: TDK
pins: 1, 2

## VLS5045EX-4R7M-H
designator L?
4.7 µH Shielded Drum Core, Wirewound Inductor 3.2 A 46.8mOhm Max Nonstandard; MPN: VLS5045EX-4R7M-H; Manufacturer: TDK
footprint IND_VLS5045EX-4R7M-H
pins: 1, 2

## VRB2405S-6WR3
designator U?
footprint VRB2405S-6WR3
pins: 1 GND, 2 VIN, 3 CTRL, 5 N.C, 6 +VOUT, 7 -VOUT, 8 N.C

## VRB2405ZP-6WR3_SCW05B-05
designator U?
footprint VRB2405ZP-6WR3 (Power Supply / Mean Well)
pins: 2 -VIN, 3 -VIN, 9 N.C, 11 N.C, 14 +VOUT, 16 -VOUT, 22 +VIN, 23 +VIN

## WQ21801-B2180-7F
designator J?
Connector,Micro SD Card,8Pin,gold flash,Black,-25~85¡æ,SMT,Foxconn; Myir P/N: 21112.00009; Mark: 1; PCB Footprint: WQ21801-B2180-7F; Datasheet: SD_Foxconn_WQ21801-B2180-7F.pdf; Reserve Value: WQ21801-B2180-7F; Manufacturer P/N: WQ21801-B2180-7F; Manufacturer: Foxconn; Part Type: Card Connector
footprint WQ21801-B2180-7F
pins: 1 DAT2, 2 DAT3, 3 CMD, 4 VCC, 5 CLK, 6 VSS, 7 DAT0, 8 DAT1, 9 CD, 10 GND, 11 Sh1, 12 Sh2, 13 Sh3

## WSLP20102L500FEA
designator *
CURRENT SENSE, RESISTOR, WSLP2010.00251%EAe3 | Vishay Dale WSLP20102L500FEA; Supplier 1: Digikey; Manufacturer: Vishay Dale; Manufacturer Part Number: WSLP20102L500FEA; Category: Chip SMD Resistors; Stock 1: 33384; Pricing 1: 1=0.82, 10=0.65, 25=0.5872, 50=0.5284, 100=0.4364, 250=0.41096, 500=0.33268, 1000=0.26907 (USD); RoHS Compliant: Yes; Supplier Part Number 1: 541-WSLP20102L500FEACT-ND
footprint RESC5125X89N

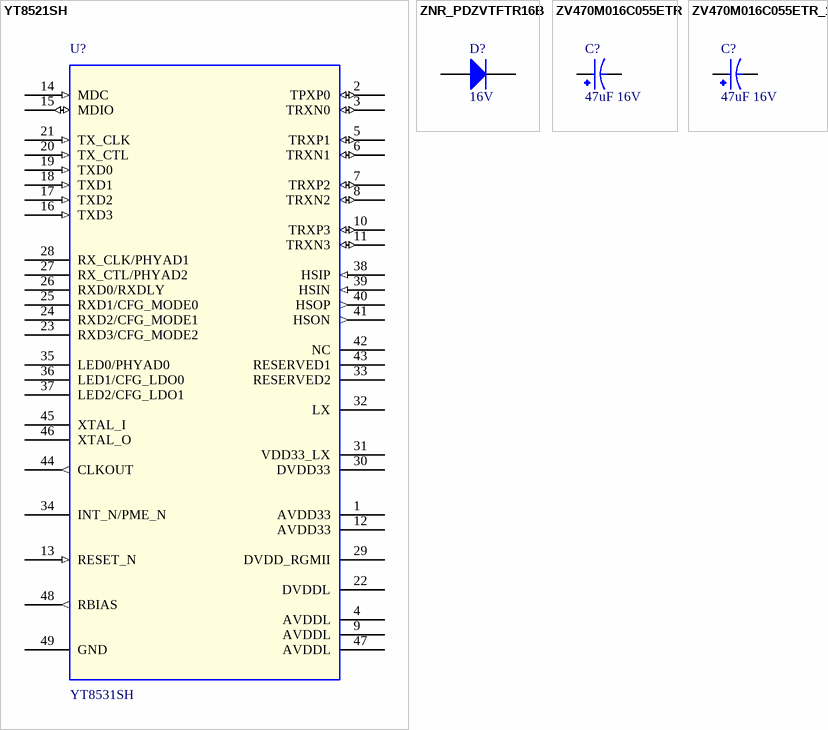
[diagram p51: symbols YT8521SH to ZV470M016C055ETR_1]

## YT8521SH
designator U?, comment YT8531SH
IC,Ethernet Physical Layer Transceiver,10/100/1000M,-40¡æ~+85¡æ,SMD,QFN48,Motorcomm; Myir P/N: 20107.80039; PCB Footprint: QFN48-0_4; Part Type: Interface; Manufacturer: Motorcomm; Manufacturer P/N: YT8531SH; Reserve Value: YT8531SH; Datasheet: YT8531SH_YT8531SC_Datasheet_draft.pdf
footprint QFN48
footprint QFN48-0_4
pins: 1 AVDD33 (power), 2 TPXP0 (io), 3 TRXN0 (io), 4 AVDDL (power), 5 TRXP1 (io), 6 TRXN1 (io), 7 TRXP2 (io), 8 TRXN2 (io), 9 AVDDL (power), 10 TRXP3 (io), 11 TRXN3 (io), 12 AVDD33 (power), 13 RESET_N (in), 14 MDC (in), 15 MDIO (io), 16 TXD3 (in), 17 TXD2 (in), 18 TXD1 (in), 19 TXD0 (in), 20 TX_CTL (in), 21 TX_CLK (in), 22 DVDDL (power), 23 RXD3/CFG_MODE2, 24 RXD2/CFG_MODE1, 25 RXD1/CFG_MODE0, 26 RXD0/RXDLY, 27 RX_CTL/PHYAD2, 28 RX_CLK/PHYAD1, 29 DVDD_RGMII (power), 30 DVDD33 (power), 31 VDD33_LX (power), 32 LX, 33 RESERVED2, 34 INT_N/PME_N, 35 LED0/PHYAD0, 36 LED1/CFG_LDO0, 37 LED2/CFG_LDO1, 38 HSIP (in), 39 HSIN (in), 40 HSOP (out), 41 HSON (out), 42 NC, 43 RESERVED1 (power), 44 CLKOUT (out), 45 XTAL_I, 46 XTAL_O, 47 AVDDL (power), 48 RBIAS (out), 49 GND (power)

## ZNR_PDZVTFTR16B
designator D?, comment 16V
DIODE ZENER 16V 1W SOD128; Manufacturer Part Number: PDZVTFTR16B; Value: 16V 1W; Order Code: DIGI : PDZVTFTR16BCT-ND
footprint SOD128_PMEG10030ELPX
pins: 1 A, 2 K

## ZV470M016C055ETR
designator C?, comment value 47uF 16V  (hidden comment: 47uF 16V ±20% SMD,D5xL5.5mm Aluminum Electrolytic Capacitors - SMD ROHS)
Manufacturer Part Number: ZV470M016C055ETR; Order Code: LCSC: C84357; LCSC Manufacturer Part Number: ZV470M016C055ETR; LCSC Part Number: C84357
footprint CAP_16SVPG47M
pins: 1, 2

## ZV470M016C055ETR_1
designator C?, comment value 47uF 16V  (hidden comment: 47uF 16V ±20% SMD,D5xL5.5mm Aluminum Electrolytic Capacitors - SMD ROHS)
Manufacturer Part Number: ZV470M016C055ETR; Order Code: LCSC: C84357; LCSC Manufacturer Part Number: ZV470M016C055ETR; LCSC Part Number: C84357
footprint CAP_16SVPG47M
pins: 1, 2